# EAGLE library part TPS62120DCN (library tps62120)
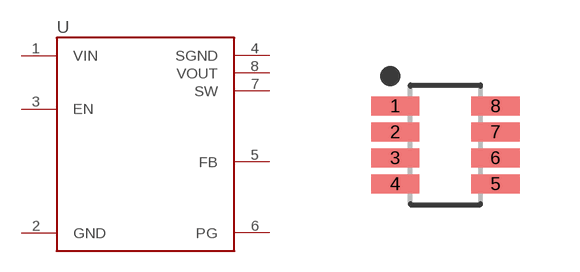
[diagram p0: symbol with the pads of SOP65P280X145-8N; footprint SOP65P280X145-8N]

Designator prefix U

## TPS62120DCN (MFR: TI; MFR_PN: TPS62120DCN)  [SOP65P280X145-8N]
1  VIN
2  GND
3  EN
4  SGND
5  FB
6  PG
7  SW
8  VOUT

## Footprint SOP65P280X145-8N (pad centres in mm)
8-SOP, 0.65 mm pitch, 2.80 mm span, 2.90 X 1.60 X 1.45 mm body 8-pin SOP package with 0.65 mm pitch, 2.80 mm span with body size 2.90 X 1.60 X 1.45 mm
smd 1.209 x 0.475: 1 -1.253,0.975; 2 -1.253,0.325; 3 -1.253,-0.325; 4 -1.253,-0.975; 5 1.253,-0.975; 6 1.253,-0.325; 7 1.253,0.325; 8 1.253,0.975